# Altium schematic symbol library SCH - MCU - SI LABS - SI LABS EFR32MG12P432F1024GL125 125-PIN BGA 7X7.SchLib: 1 symbol
Pins are listed as number, name and electrical type; pins without a type are passive.

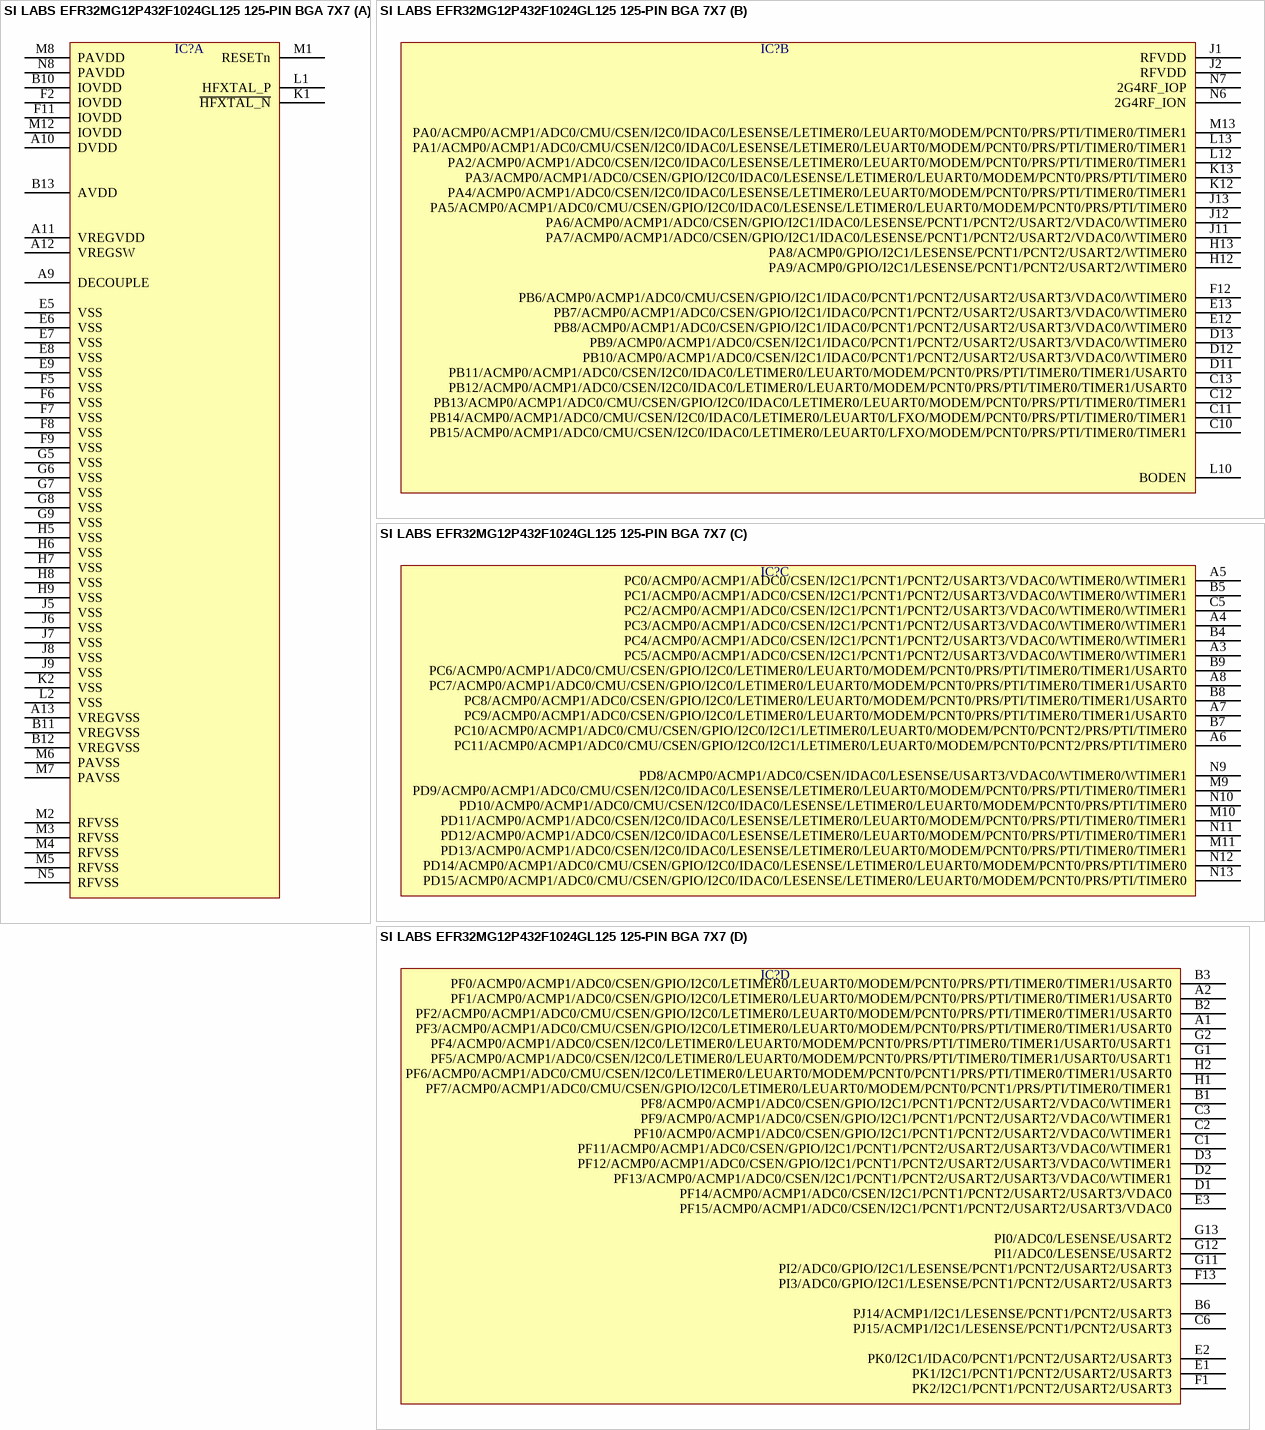
[diagram p0: symbol SI LABS EFR32MG12P432F1024GL125 125-PIN BGA 7X7]

## SI LABS EFR32MG12P432F1024GL125 125-PIN BGA 7X7
designator IC?  (value not drawn)
part A pins: A9 DECOUPLE, A10 DVDD, A11 VREGVDD, A12 VREGSW, A13 VREGVSS, B10 IOVDD, B11 VREGVSS, B12 VREGVSS, B13 AVDD, E5 VSS, E6 VSS, E7 VSS, E8 VSS, E9 VSS, F2 IOVDD, F5 VSS, F6 VSS, F7 VSS, F8 VSS, F9 VSS, F11 IOVDD, G5 VSS, G6 VSS, G7 VSS, G8 VSS, G9 VSS, H5 VSS, H6 VSS, H7 VSS, H8 VSS, H9 VSS, J5 VSS, J6 VSS, J7 VSS, J8 VSS, J9 VSS, K1 ~{HFXTAL_N}, K2 VSS, L1 HFXTAL_P, L2 VSS, M1 RESETn, M2 RFVSS, M3 RFVSS, M4 RFVSS, M5 RFVSS, M6 PAVSS, M7 PAVSS, M8 PAVDD, M12 IOVDD, N5 RFVSS, N8 PAVDD
part B pins: C10 PB15/ACMP0/ACMP1/ADC0/CMU/CSEN/I2C0/IDAC0/LETIMER0/LEUART0/LFXO/MODEM/PCNT0/PRS/PTI/TIMER0/TIMER1, C11 PB14/ACMP0/ACMP1/ADC0/CMU/CSEN/I2C0/IDAC0/LETIMER0/LEUART0/LFXO/MODEM/PCNT0/PRS/PTI/TIMER0/TIMER1, C12 PB13/ACMP0/ACMP1/ADC0/CMU/CSEN/GPIO/I2C0/IDAC0/LETIMER0/LEUART0/MODEM/PCNT0/PRS/PTI/TIMER0/TIMER1, C13 PB12/ACMP0/ACMP1/ADC0/CSEN/I2C0/IDAC0/LETIMER0/LEUART0/MODEM/PCNT0/PRS/PTI/TIMER0/TIMER1/USART0, D11 PB11/ACMP0/ACMP1/ADC0/CSEN/I2C0/IDAC0/LETIMER0/LEUART0/MODEM/PCNT0/PRS/PTI/TIMER0/TIMER1/USART0, D12 PB10/ACMP0/ACMP1/ADC0/CSEN/I2C1/IDAC0/PCNT1/PCNT2/USART2/USART3/VDAC0/WTIMER0, D13 PB9/ACMP0/ACMP1/ADC0/CSEN/I2C1/IDAC0/PCNT1/PCNT2/USART2/USART3/VDAC0/WTIMER0, E12 PB8/ACMP0/ACMP1/ADC0/CSEN/GPIO/I2C1/IDAC0/PCNT1/PCNT2/USART2/USART3/VDAC0/WTIMER0, E13 PB7/ACMP0/ACMP1/ADC0/CSEN/GPIO/I2C1/IDAC0/PCNT1/PCNT2/USART2/USART3/VDAC0/WTIMER0, F12 PB6/ACMP0/ACMP1/ADC0/CMU/CSEN/GPIO/I2C1/IDAC0/PCNT1/PCNT2/USART2/USART3/VDAC0/WTIMER0, H12 PA9/ACMP0/GPIO/I2C1/LESENSE/PCNT1/PCNT2/USART2/WTIMER0, H13 PA8/ACMP0/GPIO/I2C1/LESENSE/PCNT1/PCNT2/USART2/WTIMER0, J1 RFVDD, J2 RFVDD, J11 PA7/ACMP0/ACMP1/ADC0/CSEN/GPIO/I2C1/IDAC0/LESENSE/PCNT1/PCNT2/USART2/VDAC0/WTIMER0, J12 PA6/ACMP0/ACMP1/ADC0/CSEN/GPIO/I2C1/IDAC0/LESENSE/PCNT1/PCNT2/USART2/VDAC0/WTIMER0, J13 PA5/ACMP0/ACMP1/ADC0/CMU/CSEN/GPIO/I2C0/IDAC0/LESENSE/LETIMER0/LEUART0/MODEM/PCNT0/PRS/PTI/TIMER0, K12 PA4/ACMP0/ACMP1/ADC0/CSEN/I2C0/IDAC0/LESENSE/LETIMER0/LEUART0/MODEM/PCNT0/PRS/PTI/TIMER0/TIMER1, K13 PA3/ACMP0/ACMP1/ADC0/CSEN/GPIO/I2C0/IDAC0/LESENSE/LETIMER0/LEUART0/MODEM/PCNT0/PRS/PTI/TIMER0, L10 BODEN, L12 PA2/ACMP0/ACMP1/ADC0/CSEN/I2C0/IDAC0/LESENSE/LETIMER0/LEUART0/MODEM/PCNT0/PRS/PTI/TIMER0/TIMER1, L13 PA1/ACMP0/ACMP1/ADC0/CMU/CSEN/I2C0/IDAC0/LESENSE/LETIMER0/LEUART0/MODEM/PCNT0/PRS/PTI/TIMER0/TIMER1, M13 PA0/ACMP0/ACMP1/ADC0/CMU/CSEN/I2C0/IDAC0/LESENSE/LETIMER0/LEUART0/MODEM/PCNT0/PRS/PTI/TIMER0/TIMER1, N6 2G4RF_ION, N7 2G4RF_IOP
part C pins: A3 PC5/ACMP0/ACMP1/ADC0/CSEN/I2C1/PCNT1/PCNT2/USART3/VDAC0/WTIMER0/WTIMER1, A4 PC3/ACMP0/ACMP1/ADC0/CSEN/I2C1/PCNT1/PCNT2/USART3/VDAC0/WTIMER0/WTIMER1, A5 PC0/ACMP0/ACMP1/ADC0/CSEN/I2C1/PCNT1/PCNT2/USART3/VDAC0/WTIMER0/WTIMER1, A6 PC11/ACMP0/ACMP1/ADC0/CMU/CSEN/GPIO/I2C0/I2C1/LETIMER0/LEUART0/MODEM/PCNT0/PCNT2/PRS/PTI/TIMER0, A7 PC9/ACMP0/ACMP1/ADC0/CSEN/GPIO/I2C0/LETIMER0/LEUART0/MODEM/PCNT0/PRS/PTI/TIMER0/TIMER1/USART0, A8 PC7/ACMP0/ACMP1/ADC0/CMU/CSEN/GPIO/I2C0/LETIMER0/LEUART0/MODEM/PCNT0/PRS/PTI/TIMER0/TIMER1/USART0, B4 PC4/ACMP0/ACMP1/ADC0/CSEN/I2C1/PCNT1/PCNT2/USART3/VDAC0/WTIMER0/WTIMER1, B5 PC1/ACMP0/ACMP1/ADC0/CSEN/I2C1/PCNT1/PCNT2/USART3/VDAC0/WTIMER0/WTIMER1, B7 PC10/ACMP0/ACMP1/ADC0/CMU/CSEN/GPIO/I2C0/I2C1/LETIMER0/LEUART0/MODEM/PCNT0/PCNT2/PRS/PTI/TIMER0, B8 PC8/ACMP0/ACMP1/ADC0/CSEN/GPIO/I2C0/LETIMER0/LEUART0/MODEM/PCNT0/PRS/PTI/TIMER0/TIMER1/USART0, B9 PC6/ACMP0/ACMP1/ADC0/CMU/CSEN/GPIO/I2C0/LETIMER0/LEUART0/MODEM/PCNT0/PRS/PTI/TIMER0/TIMER1/USART0, C5 PC2/ACMP0/ACMP1/ADC0/CSEN/I2C1/PCNT1/PCNT2/USART3/VDAC0/WTIMER0/WTIMER1, M9 PD9/ACMP0/ACMP1/ADC0/CMU/CSEN/I2C0/IDAC0/LESENSE/LETIMER0/LEUART0/MODEM/PCNT0/PRS/PTI/TIMER0/TIMER1, M10 PD11/ACMP0/ACMP1/ADC0/CSEN/I2C0/IDAC0/LESENSE/LETIMER0/LEUART0/MODEM/PCNT0/PRS/PTI/TIMER0/TIMER1, M11 PD13/ACMP0/ACMP1/ADC0/CSEN/I2C0/IDAC0/LESENSE/LETIMER0/LEUART0/MODEM/PCNT0/PRS/PTI/TIMER0/TIMER1, N9 PD8/ACMP0/ACMP1/ADC0/CSEN/IDAC0/LESENSE/USART3/VDAC0/WTIMER0/WTIMER1, N10 PD10/ACMP0/ACMP1/ADC0/CMU/CSEN/I2C0/IDAC0/LESENSE/LETIMER0/LEUART0/MODEM/PCNT0/PRS/PTI/TIMER0, N11 PD12/ACMP0/ACMP1/ADC0/CSEN/I2C0/IDAC0/LESENSE/LETIMER0/LEUART0/MODEM/PCNT0/PRS/PTI/TIMER0/TIMER1, N12 PD14/ACMP0/ACMP1/ADC0/CMU/CSEN/GPIO/I2C0/IDAC0/LESENSE/LETIMER0/LEUART0/MODEM/PCNT0/PRS/PTI/TIMER0, N13 PD15/ACMP0/ACMP1/ADC0/CMU/CSEN/GPIO/I2C0/IDAC0/LESENSE/LETIMER0/LEUART0/MODEM/PCNT0/PRS/PTI/TIMER0
part D pins: A1 PF3/ACMP0/ACMP1/ADC0/CMU/CSEN/GPIO/I2C0/LETIMER0/LEUART0/MODEM/PCNT0/PRS/PTI/TIMER0/TIMER1/USART0, A2 PF1/ACMP0/ACMP1/ADC0/CSEN/GPIO/I2C0/LETIMER0/LEUART0/MODEM/PCNT0/PRS/PTI/TIMER0/TIMER1/USART0, B1 PF8/ACMP0/ACMP1/ADC0/CSEN/GPIO/I2C1/PCNT1/PCNT2/USART2/VDAC0/WTIMER1, B2 PF2/ACMP0/ACMP1/ADC0/CMU/CSEN/GPIO/I2C0/LETIMER0/LEUART0/MODEM/PCNT0/PRS/PTI/TIMER0/TIMER1/USART0, B3 PF0/ACMP0/ACMP1/ADC0/CSEN/GPIO/I2C0/LETIMER0/LEUART0/MODEM/PCNT0/PRS/PTI/TIMER0/TIMER1/USART0, B6 PJ14/ACMP1/I2C1/LESENSE/PCNT1/PCNT2/USART3, C1 PF11/ACMP0/ACMP1/ADC0/CSEN/GPIO/I2C1/PCNT1/PCNT2/USART2/USART3/VDAC0/WTIMER1, C2 PF10/ACMP0/ACMP1/ADC0/CSEN/GPIO/I2C1/PCNT1/PCNT2/USART2/VDAC0/WTIMER1, C3 PF9/ACMP0/ACMP1/ADC0/CSEN/GPIO/I2C1/PCNT1/PCNT2/USART2/VDAC0/WTIMER1, C6 PJ15/ACMP1/I2C1/LESENSE/PCNT1/PCNT2/USART3, D1 PF14/ACMP0/ACMP1/ADC0/CSEN/I2C1/PCNT1/PCNT2/USART2/USART3/VDAC0, D2 PF13/ACMP0/ACMP1/ADC0/CSEN/I2C1/PCNT1/PCNT2/USART2/USART3/VDAC0/WTIMER1, D3 PF12/ACMP0/ACMP1/ADC0/CSEN/GPIO/I2C1/PCNT1/PCNT2/USART2/USART3/VDAC0/WTIMER1, E1 PK1/I2C1/PCNT1/PCNT2/USART2/USART3, E2 PK0/I2C1/IDAC0/PCNT1/PCNT2/USART2/USART3, E3 PF15/ACMP0/ACMP1/ADC0/CSEN/I2C1/PCNT1/PCNT2/USART2/USART3/VDAC0, F1 PK2/I2C1/PCNT1/PCNT2/USART2/USART3, F13 PI3/ADC0/GPIO/I2C1/LESENSE/PCNT1/PCNT2/USART2/USART3, G1 PF5/ACMP0/ACMP1/ADC0/CSEN/I2C0/LETIMER0/LEUART0/MODEM/PCNT0/PRS/PTI/TIMER0/TIMER1/USART0/USART1, G2 PF4/ACMP0/ACMP1/ADC0/CSEN/I2C0/LETIMER0/LEUART0/MODEM/PCNT0/PRS/PTI/TIMER0/TIMER1/USART0/USART1, G11 PI2/ADC0/GPIO/I2C1/LESENSE/PCNT1/PCNT2/USART2/USART3, G12 PI1/ADC0/LESENSE/USART2, G13 PI0/ADC0/LESENSE/USART2, H1 PF7/ACMP0/ACMP1/ADC0/CMU/CSEN/GPIO/I2C0/LETIMER0/LEUART0/MODEM/PCNT0/PCNT1/PRS/PTI/TIMER0/TIMER1, H2 PF6/ACMP0/ACMP1/ADC0/CMU/CSEN/I2C0/LETIMER0/LEUART0/MODEM/PCNT0/PCNT1/PRS/PTI/TIMER0/TIMER1/USART0